# Altium schematic symbol library Projet_Lampe_V1.SCHLIB: 1 symbol
Pins are listed as number, name and electrical type; pins without a type are passive.

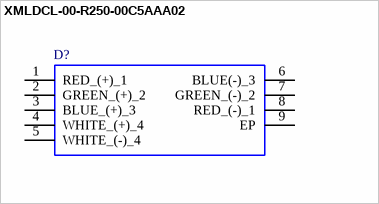
[diagram p0: symbol XMLDCL-00-R250-00C5AAA02]

## XMLDCL-00-R250-00C5AAA02
designator D?
High Power LEDs - Multi-Colour RGB, White 6000K LED; Manufacturer_Name: Wolfspeed; Geometry.Height: 3.15mm; Manufacturer_Part_Number: XMLDCL-00-R250-00C5AAA02; Mouser Part Number: 941-XMLDCL0R25C5A02; Mouser Price/Stock: https://www.mouser.co.uk/ProductDetail/Cree-LED/XMLDCL-00-R250-00C5AAA02?qs=Znm5pLBrcALryTgji8xmYQ%3D%3D; Arrow Part Number: *; Arrow Price/Stock: *; Mouser Testing Part Number: *; Mouser Testing Price/Stock: *; Datasheet Link: https://eu.mouser.com/datasheet/2/723/XLamp_XMLDCL-2935899.pdf
footprint XMLDCL00R25000C5AAA02
pins: 1 RED_(+)_1, 2 GREEN_(+)_2, 3 BLUE_(+)_3, 4 WHITE_(+)_4, 5 WHITE_(-)_4, 6 BLUE(-)_3, 7 GREEN_(-)_2, 8 RED_(-)_1, 9 EP